# Altium integrated library MCU08050C1000FP500.IntLib: 1 symbol
Pins are listed as number, name and electrical type; pins without a type are passive.

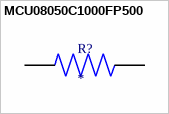
[diagram p0: symbol MCU08050C1000FP500]

## MCU08050C1000FP500
designator R?
Res Thin Film 0805 100 Ohm 1% 0.125W(1/8W) ?50ppm/C Molded SMD Automotive Medical Paper T/R; MF: Vishay Beyschlag; MP: MCU08050C1000FP500; SnapEDA_Link: https://www.snapeda.com/parts/MCU08050C1000FP500/Vishay/view-part/?ref=snap; Package: 2012 Vishay; Value: *; Check_prices: https://www.snapeda.com/parts/MCU08050C1000FP500/Vishay/view-part/?ref=eda
footprint RESC2012X55N
pins: 1, 2